# Altium integrated library Linear Technology Operational Amplifiers (LT1000).IntLib: 2280 symbols (part 58 of 79)
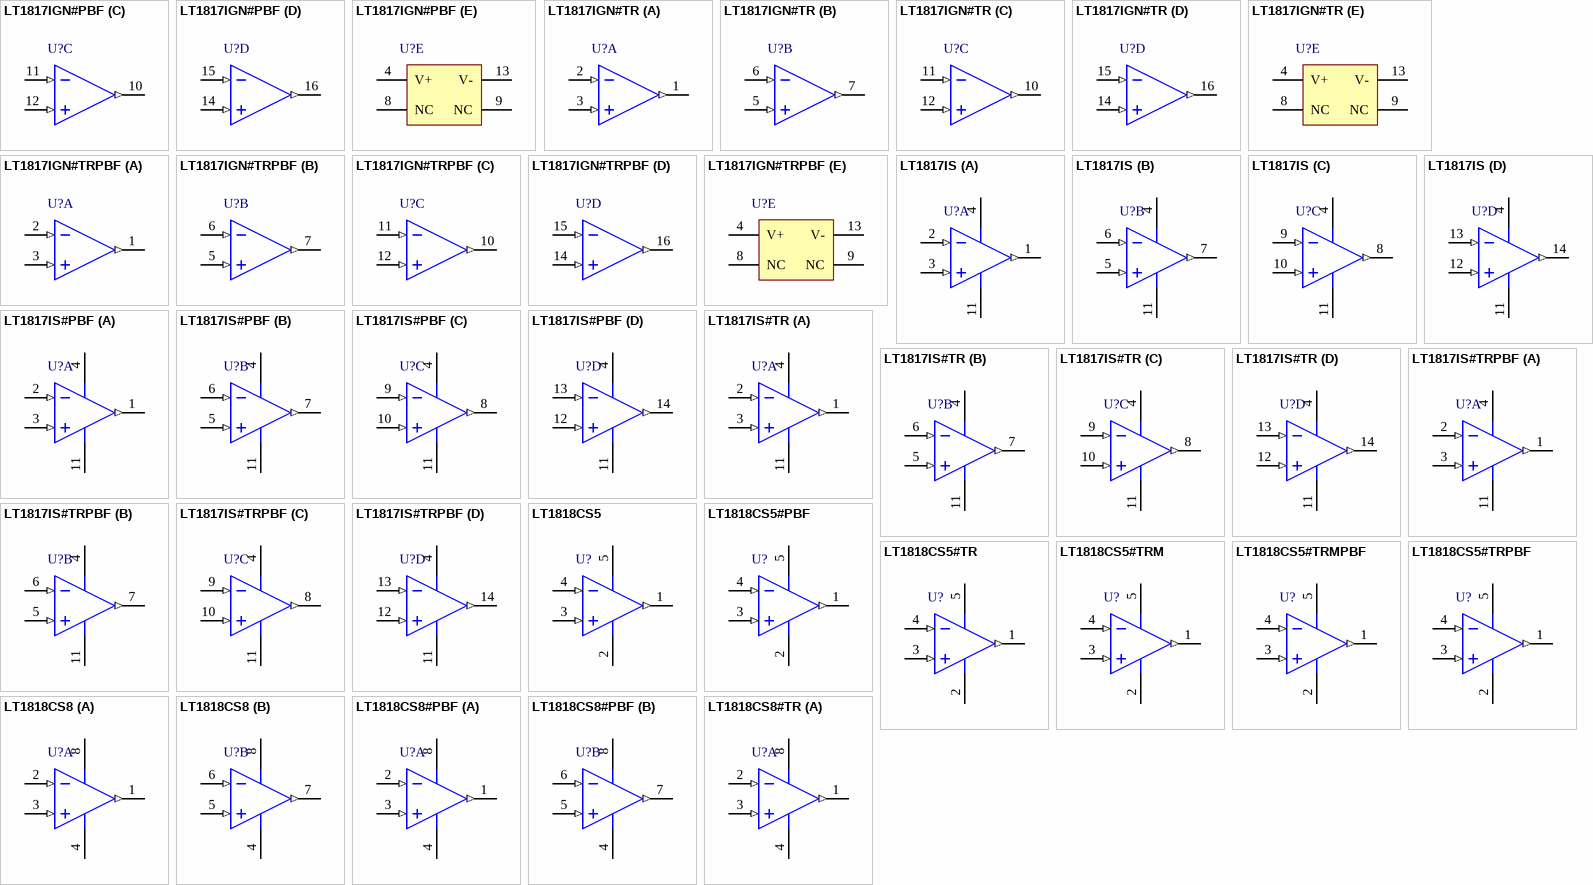
[diagram p162: symbols LT1817IGN#PBF to LT1818CS8#TR]

## LT1818CS8#PBF
designator U?
Single Channel, High SR Volage Feedback Operational Amplifiers, 400 MHz Typical GBW, 2500 V/us Typical SR, 3.5 to 12.6 V, 8-Pin SOIC (S8-8), Commercial, Pb-Free; Linear Technology Part Number: LT1818; Manufacturer: Linear Technology; PartNumber: LT1818CS8#PBF; Channels (#): 1; GBW (MHz) Typical: 400; Is (mA) Typical: 9; SR (V/us) Typical: 2500; Vos (mV) Guaranteed: 1.5; Vos (mV) Typical: 0.2; Vs Max (V): 12.6; Vs Min (V): 3.5; DatasheetVersion: Rev. B; PackageVersion: Rev G; PackageReference: LT-S8-8; PackageDescription: 8-Pin Plastic Small Outline, Body 4.9 x 3.9 mm, Pitch 1.27 mm; Supplier 1: Digi-Key; Supplier Part Number 1: LT1818CS8#PBF-ND; Supplier 2: Farnell; Supplier Part Number 2: 1330722; Supplier 3: Newark; Supplier Part Number 3: 57M7031; RoHS: Pb-Free; Type: VFB; Mounting Technology: Surface Mount; ComponentLink1Description: Manufacturer URL; ComponentLink1URL: http://www.linear.com/; ComponentLink2Description: Datasheet; ComponentLink2URL: http://cds.linear.com/docs/en/datasheet/18189fb.pdf; ComponentLink3Description: Package Specification; ComponentLink3URL: http://cds.linear.com/docs/en/packaging/05081610_G_SO8.pdf
footprint LT-S8-8_N (SOIC, 8-Leads, Body 4.9x3.9mm, Pitch 1.27mm, IPC Medium Density)
footprint LT-S8-8_L (SOIC, 8-Leads, Body 4.9x3.9mm, Pitch 1.27mm, IPC High Density)
footprint LT-S8-8_M (SOIC, 8-Leads, Body 4.9x3.9mm, Pitch 1.27mm, IPC Low Density)
pins on every part: 4 V- (power), 8 V+ (power)
part A pins: 1 OUT A (out), 2 -IN A (in), 3 +IN A (in)
part B pins: 5 +IN B (in), 6 -IN B (in), 7 OUT B (out)

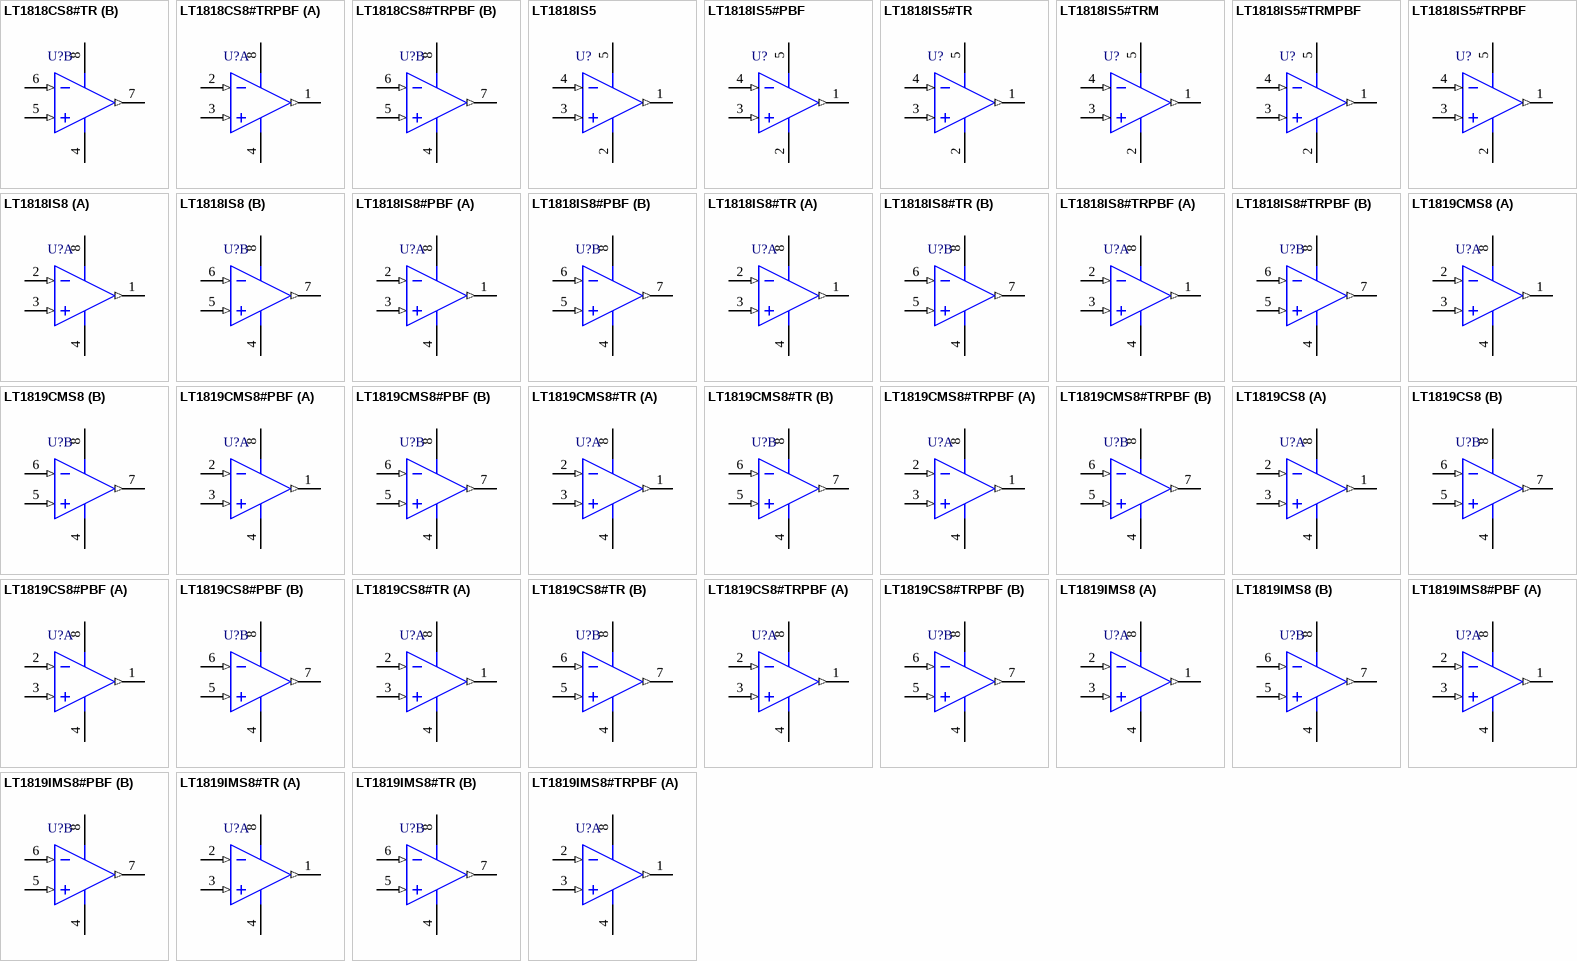
[diagram p90: symbols LT1818CS8#TR to LT1819IMS8#TRPBF]

## LT1818CS8#TR
designator U?
Single Channel, High SR Volage Feedback Operational Amplifiers, 400 MHz Typical GBW, 2500 V/us Typical SR, 3.5 to 12.6 V, 8-Pin SOIC (S8-8), Commercial, Reel; Linear Technology Part Number: LT1818; Manufacturer: Linear Technology; PartNumber: LT1818CS8#TR; Channels (#): 1; GBW (MHz) Typical: 400; Is (mA) Typical: 9; SR (V/us) Typical: 2500; Vos (mV) Guaranteed: 1.5; Vos (mV) Typical: 0.2; Vs Max (V): 12.6; Vs Min (V): 3.5; DatasheetVersion: Rev. B; PackageVersion: Rev G; PackageReference: LT-S8-8; PackageDescription: 8-Pin Plastic Small Outline, Body 4.9 x 3.9 mm, Pitch 1.27 mm; Supplier 1: Digi-Key; Supplier Part Number 1: LT1818CS8#TR-ND; Packing: Reel; Type: VFB; Mounting Technology: Surface Mount; ComponentLink1Description: Manufacturer URL; ComponentLink1URL: http://www.linear.com/; ComponentLink2Description: Datasheet; ComponentLink2URL: http://cds.linear.com/docs/en/datasheet/18189fb.pdf; ComponentLink3Description: Package Specification; ComponentLink3URL: http://cds.linear.com/docs/en/packaging/05081610_G_SO8.pdf
footprint LT-S8-8_N (SOIC, 8-Leads, Body 4.9x3.9mm, Pitch 1.27mm, IPC Medium Density)
footprint LT-S8-8_L (SOIC, 8-Leads, Body 4.9x3.9mm, Pitch 1.27mm, IPC High Density)
footprint LT-S8-8_M (SOIC, 8-Leads, Body 4.9x3.9mm, Pitch 1.27mm, IPC Low Density)
pins on every part: 4 V- (power), 8 V+ (power)
part A pins: 1 OUT A (out), 2 -IN A (in), 3 +IN A (in)
part B pins: 5 +IN B (in), 6 -IN B (in), 7 OUT B (out)

## LT1818CS8#TRPBF
designator U?
Single Channel, High SR Volage Feedback Operational Amplifiers, 400 MHz Typical GBW, 2500 V/us Typical SR, 3.5 to 12.6 V, 8-Pin SOIC (S8-8), Commercial, Pb-Free, Reel; Linear Technology Part Number: LT1818; Manufacturer: Linear Technology; PartNumber: LT1818CS8#TRPBF; Channels (#): 1; GBW (MHz) Typical: 400; Is (mA) Typical: 9; SR (V/us) Typical: 2500; Vos (mV) Guaranteed: 1.5; Vos (mV) Typical: 0.2; Vs Max (V): 12.6; Vs Min (V): 3.5; DatasheetVersion: Rev. B; PackageVersion: Rev G; PackageReference: LT-S8-8; PackageDescription: 8-Pin Plastic Small Outline, Body 4.9 x 3.9 mm, Pitch 1.27 mm; Supplier 1: Digi-Key; Supplier Part Number 1: LT1818CS8#TRPBF-ND; Packing: Reel; RoHS: Pb-Free; Type: VFB; Mounting Technology: Surface Mount; ComponentLink1Description: Manufacturer URL; ComponentLink1URL: http://www.linear.com/; ComponentLink2Description: Datasheet; ComponentLink2URL: http://cds.linear.com/docs/en/datasheet/18189fb.pdf; ComponentLink3Description: Package Specification; ComponentLink3URL: http://cds.linear.com/docs/en/packaging/05081610_G_SO8.pdf
footprint LT-S8-8_N (SOIC, 8-Leads, Body 4.9x3.9mm, Pitch 1.27mm, IPC Medium Density)
footprint LT-S8-8_L (SOIC, 8-Leads, Body 4.9x3.9mm, Pitch 1.27mm, IPC High Density)
footprint LT-S8-8_M (SOIC, 8-Leads, Body 4.9x3.9mm, Pitch 1.27mm, IPC Low Density)
pins on every part: 4 V- (power), 8 V+ (power)
part A pins: 1 OUT A (out), 2 -IN A (in), 3 +IN A (in)
part B pins: 5 +IN B (in), 6 -IN B (in), 7 OUT B (out)

## LT1818IS5
designator U?
Single Channel, High SR Volage Feedback Operational Amplifiers, 400 MHz Typical GBW, 2500 V/us Typical SR, 3.5 to 12.6 V, 5-Pin SOT23 (S5-5), Industrial; Linear Technology Part Number: LT1818; Manufacturer: Linear Technology; PartNumber: LT1818IS5; Channels (#): 1; GBW (MHz) Typical: 400; Is (mA) Typical: 9; SR (V/us) Typical: 2500; Vos (mV) Guaranteed: 1.5; Vos (mV) Typical: 0.2; Vs Max (V): 12.6; Vs Min (V): 3.5; DatasheetVersion: Rev. B; PackageReference: LT-S5-5-TSOT-23; PackageDescription: 5-Lead Plastic TSOT-23, Body 1.63 x 2.90 mm, Pitch 0.95 mm; Type: VFB; Mounting Technology: Surface Mount; Code_JEDEC: MO-193; ComponentLink1Description: Manufacturer URL; ComponentLink1URL: http://www.linear.com/; ComponentLink2Description: Datasheet; ComponentLink2URL: http://cds.linear.com/docs/en/datasheet/18189fb.pdf; ComponentLink3Description: Package Specification; ComponentLink3URL: http://cds.linear.com/docs/en/packaging/SOT_5_05-08-1635.pdf
footprint LT-S5-5-TSOT-23_N (SOT23, 5-Leads, Body 2.90x1.63mm, Pitch 0.95mm, IPC Medium Density)
footprint LT-S5-5-TSOT-23_L (SOT23, 5-Leads, Body 2.90x1.63mm, Pitch 0.95mm, IPC High Density)
footprint LT-S5-5-TSOT-23_M (SOT23, 5-Leads, Body 2.90x1.63mm, Pitch 0.95mm, IPC Low Density)
pins: 1 OUT 1 (out), 2 V- (power), 3 +IN (in), 4 -IN (in), 5 V+ (power)

## LT1818IS5#PBF
designator U?
Single Channel, High SR Volage Feedback Operational Amplifiers, 400 MHz Typical GBW, 2500 V/us Typical SR, 3.5 to 12.6 V, 5-Pin SOT23 (S5-5), Industrial, Pb-Free; Linear Technology Part Number: LT1818; Manufacturer: Linear Technology; PartNumber: LT1818IS5#PBF; Channels (#): 1; GBW (MHz) Typical: 400; Is (mA) Typical: 9; SR (V/us) Typical: 2500; Vos (mV) Guaranteed: 1.5; Vos (mV) Typical: 0.2; Vs Max (V): 12.6; Vs Min (V): 3.5; DatasheetVersion: Rev. B; PackageReference: LT-S5-5-TSOT-23; PackageDescription: 5-Lead Plastic TSOT-23, Body 1.63 x 2.90 mm, Pitch 0.95 mm; Supplier 1: Newark; Supplier Part Number 1: 78T3755; RoHS: Pb-Free; Type: VFB; Mounting Technology: Surface Mount; Code_JEDEC: MO-193; ComponentLink1Description: Manufacturer URL; ComponentLink1URL: http://www.linear.com/; ComponentLink2Description: Datasheet; ComponentLink2URL: http://cds.linear.com/docs/en/datasheet/18189fb.pdf; ComponentLink3Description: Package Specification; ComponentLink3URL: http://cds.linear.com/docs/en/packaging/SOT_5_05-08-1635.pdf
footprint LT-S5-5-TSOT-23_N (SOT23, 5-Leads, Body 2.90x1.63mm, Pitch 0.95mm, IPC Medium Density)
footprint LT-S5-5-TSOT-23_L (SOT23, 5-Leads, Body 2.90x1.63mm, Pitch 0.95mm, IPC High Density)
footprint LT-S5-5-TSOT-23_M (SOT23, 5-Leads, Body 2.90x1.63mm, Pitch 0.95mm, IPC Low Density)
pins: 1 OUT 1 (out), 2 V- (power), 3 +IN (in), 4 -IN (in), 5 V+ (power)

## LT1818IS5#TR
designator U?
Single Channel, High SR Volage Feedback Operational Amplifiers, 400 MHz Typical GBW, 2500 V/us Typical SR, 3.5 to 12.6 V, 5-Pin SOT23 (S5-5), Industrial, Reel; Linear Technology Part Number: LT1818; Manufacturer: Linear Technology; PartNumber: LT1818IS5#TR; Channels (#): 1; GBW (MHz) Typical: 400; Is (mA) Typical: 9; SR (V/us) Typical: 2500; Vos (mV) Guaranteed: 1.5; Vos (mV) Typical: 0.2; Vs Max (V): 12.6; Vs Min (V): 3.5; DatasheetVersion: Rev. B; PackageReference: LT-S5-5-TSOT-23; PackageDescription: 5-Lead Plastic TSOT-23, Body 1.63 x 2.90 mm, Pitch 0.95 mm; Supplier 1: Digi-Key; Supplier Part Number 1: LT1818IS5#TR-ND; Packing: Reel; Type: VFB; Mounting Technology: Surface Mount; Code_JEDEC: MO-193; ComponentLink1Description: Manufacturer URL; ComponentLink1URL: http://www.linear.com/; ComponentLink2Description: Datasheet; ComponentLink2URL: http://cds.linear.com/docs/en/datasheet/18189fb.pdf; ComponentLink3Description: Package Specification; ComponentLink3URL: http://cds.linear.com/docs/en/packaging/SOT_5_05-08-1635.pdf
footprint LT-S5-5-TSOT-23_N (SOT23, 5-Leads, Body 2.90x1.63mm, Pitch 0.95mm, IPC Medium Density)
footprint LT-S5-5-TSOT-23_L (SOT23, 5-Leads, Body 2.90x1.63mm, Pitch 0.95mm, IPC High Density)
footprint LT-S5-5-TSOT-23_M (SOT23, 5-Leads, Body 2.90x1.63mm, Pitch 0.95mm, IPC Low Density)
pins: 1 OUT 1 (out), 2 V- (power), 3 +IN (in), 4 -IN (in), 5 V+ (power)

## LT1818IS5#TRM
designator U?
Single Channel, High SR Volage Feedback Operational Amplifiers, 400 MHz Typical GBW, 2500 V/us Typical SR, 3.5 to 12.6 V, 5-Pin SOT23 (S5-5), Industrial, Mini Reel; Linear Technology Part Number: LT1818; Manufacturer: Linear Technology; PartNumber: LT1818IS5#TRM; Channels (#): 1; GBW (MHz) Typical: 400; Is (mA) Typical: 9; SR (V/us) Typical: 2500; Vos (mV) Guaranteed: 1.5; Vos (mV) Typical: 0.2; Vs Max (V): 12.6; Vs Min (V): 3.5; DatasheetVersion: Rev. B; PackageReference: LT-S5-5-TSOT-23; PackageDescription: 5-Lead Plastic TSOT-23, Body 1.63 x 2.90 mm, Pitch 0.95 mm; Supplier 1: Digi-Key; Supplier Part Number 1: LT1818IS5#TRM-ND; Packing: Mini Reel; Type: VFB; Mounting Technology: Surface Mount; Code_JEDEC: MO-193; ComponentLink1Description: Manufacturer URL; ComponentLink1URL: http://www.linear.com/; ComponentLink2Description: Datasheet; ComponentLink2URL: http://cds.linear.com/docs/en/datasheet/18189fb.pdf; ComponentLink3Description: Package Specification; ComponentLink3URL: http://cds.linear.com/docs/en/packaging/SOT_5_05-08-1635.pdf
footprint LT-S5-5-TSOT-23_N (SOT23, 5-Leads, Body 2.90x1.63mm, Pitch 0.95mm, IPC Medium Density)
footprint LT-S5-5-TSOT-23_L (SOT23, 5-Leads, Body 2.90x1.63mm, Pitch 0.95mm, IPC High Density)
footprint LT-S5-5-TSOT-23_M (SOT23, 5-Leads, Body 2.90x1.63mm, Pitch 0.95mm, IPC Low Density)
pins: 1 OUT 1 (out), 2 V- (power), 3 +IN (in), 4 -IN (in), 5 V+ (power)

## LT1818IS5#TRMPBF
designator U?
Single Channel, High SR Volage Feedback Operational Amplifiers, 400 MHz Typical GBW, 2500 V/us Typical SR, 3.5 to 12.6 V, 5-Pin SOT23 (S5-5), Industrial, Pb-Free, Mini Reel; Linear Technology Part Number: LT1818; Manufacturer: Linear Technology; PartNumber: LT1818IS5#TRMPBF; Channels (#): 1; GBW (MHz) Typical: 400; Is (mA) Typical: 9; SR (V/us) Typical: 2500; Vos (mV) Guaranteed: 1.5; Vos (mV) Typical: 0.2; Vs Max (V): 12.6; Vs Min (V): 3.5; DatasheetVersion: Rev. B; PackageReference: LT-S5-5-TSOT-23; PackageDescription: 5-Lead Plastic TSOT-23, Body 1.63 x 2.90 mm, Pitch 0.95 mm; Supplier 1: Digi-Key; Supplier Part Number 1: LT1818IS5#TRMPBF-ND; Supplier 2: Newark; Supplier Part Number 2: 57M7036; Packing: Mini Reel; RoHS: Pb-Free; Type: VFB; Mounting Technology: Surface Mount; Code_JEDEC: MO-193; ComponentLink1Description: Manufacturer URL; ComponentLink1URL: http://www.linear.com/; ComponentLink2Description: Datasheet; ComponentLink2URL: http://cds.linear.com/docs/en/datasheet/18189fb.pdf; ComponentLink3Description: Package Specification; ComponentLink3URL: http://cds.linear.com/docs/en/packaging/SOT_5_05-08-1635.pdf
footprint LT-S5-5-TSOT-23_N (SOT23, 5-Leads, Body 2.90x1.63mm, Pitch 0.95mm, IPC Medium Density)
footprint LT-S5-5-TSOT-23_L (SOT23, 5-Leads, Body 2.90x1.63mm, Pitch 0.95mm, IPC High Density)
footprint LT-S5-5-TSOT-23_M (SOT23, 5-Leads, Body 2.90x1.63mm, Pitch 0.95mm, IPC Low Density)
pins: 1 OUT 1 (out), 2 V- (power), 3 +IN (in), 4 -IN (in), 5 V+ (power)

## LT1818IS5#TRPBF
designator U?
Single Channel, High SR Volage Feedback Operational Amplifiers, 400 MHz Typical GBW, 2500 V/us Typical SR, 3.5 to 12.6 V, 5-Pin SOT23 (S5-5), Industrial, Pb-Free, Reel; Linear Technology Part Number: LT1818; Manufacturer: Linear Technology; PartNumber: LT1818IS5#TRPBF; Channels (#): 1; GBW (MHz) Typical: 400; Is (mA) Typical: 9; SR (V/us) Typical: 2500; Vos (mV) Guaranteed: 1.5; Vos (mV) Typical: 0.2; Vs Max (V): 12.6; Vs Min (V): 3.5; DatasheetVersion: Rev. B; PackageReference: LT-S5-5-TSOT-23; PackageDescription: 5-Lead Plastic TSOT-23, Body 1.63 x 2.90 mm, Pitch 0.95 mm; Supplier 1: Digi-Key; Supplier Part Number 1: LT1818IS5#TRPBF-ND; Packing: Reel; RoHS: Pb-Free; Type: VFB; Mounting Technology: Surface Mount; Code_JEDEC: MO-193; ComponentLink1Description: Manufacturer URL; ComponentLink1URL: http://www.linear.com/; ComponentLink2Description: Datasheet; ComponentLink2URL: http://cds.linear.com/docs/en/datasheet/18189fb.pdf; ComponentLink3Description: Package Specification; ComponentLink3URL: http://cds.linear.com/docs/en/packaging/SOT_5_05-08-1635.pdf
footprint LT-S5-5-TSOT-23_N (SOT23, 5-Leads, Body 2.90x1.63mm, Pitch 0.95mm, IPC Medium Density)
footprint LT-S5-5-TSOT-23_L (SOT23, 5-Leads, Body 2.90x1.63mm, Pitch 0.95mm, IPC High Density)
footprint LT-S5-5-TSOT-23_M (SOT23, 5-Leads, Body 2.90x1.63mm, Pitch 0.95mm, IPC Low Density)
pins: 1 OUT 1 (out), 2 V- (power), 3 +IN (in), 4 -IN (in), 5 V+ (power)

## LT1818IS8
designator U?
Single Channel, High Slew Rate VFB Operational Amplifier, 400 MHz Typical GBW, 2500 V/us Typical SR, 3.5 to 12.6 V, 8-Pin SOIC (S8-8), Industrial; Linear Technology Part Number: LT1818; Manufacturer: Linear Technology; PartNumber: LT1818IS8; Channels (#): 1; GBW (MHz) Typical: 400; Is (mA) Typical: 9; SR (V/us) Typical: 2500; Vos (mV) Guaranteed: 1.5; Vos (mV) Typical: 0.2; Vs Max (V): 12.6; Vs Min (V): 3.5; DatasheetVersion: Rev. B; PackageVersion: Rev G; PackageReference: LT-S8-8; PackageDescription: 8-Pin Plastic Small Outline, Body 4.9 x 3.9 mm, Pitch 1.27 mm; Supplier 1: Digi-Key; Supplier Part Number 1: LT1818IS8-ND; Type: VFB; Mounting Technology: Surface Mount; ComponentLink1Description: Manufacturer URL; ComponentLink1URL: http://www.linear.com/; ComponentLink2Description: Datasheet; ComponentLink2URL: http://cds.linear.com/docs/en/datasheet/18189fb.pdf; ComponentLink3Description: Package Specification; ComponentLink3URL: http://cds.linear.com/docs/en/packaging/05081610_G_SO8.pdf
footprint LT-S8-8_N (SOIC, 8-Leads, Body 4.9x3.9mm, Pitch 1.27mm, IPC Medium Density)
footprint LT-S8-8_L (SOIC, 8-Leads, Body 4.9x3.9mm, Pitch 1.27mm, IPC High Density)
footprint LT-S8-8_M (SOIC, 8-Leads, Body 4.9x3.9mm, Pitch 1.27mm, IPC Low Density)
pins on every part: 4 V- (power), 8 V+ (power)
part A pins: 1 OUT A (out), 2 -IN A (in), 3 +IN A (in)
part B pins: 5 +IN B (in), 6 -IN B (in), 7 OUT B (out)

## LT1818IS8#PBF
designator U?
Single Channel, High Slew Rate VFB Operational Amplifier, 400 MHz Typical GBW, 2500 V/us Typical SR, 3.5 to 12.6 V, 8-Pin SOIC (S8-8), Industrial, Pb-Free; Linear Technology Part Number: LT1818; Manufacturer: Linear Technology; PartNumber: LT1818IS8#PBF; Channels (#): 1; GBW (MHz) Typical: 400; Is (mA) Typical: 9; SR (V/us) Typical: 2500; Vos (mV) Guaranteed: 1.5; Vos (mV) Typical: 0.2; Vs Max (V): 12.6; Vs Min (V): 3.5; DatasheetVersion: Rev. B; PackageVersion: Rev G; PackageReference: LT-S8-8; PackageDescription: 8-Pin Plastic Small Outline, Body 4.9 x 3.9 mm, Pitch 1.27 mm; Supplier 1: Digi-Key; Supplier Part Number 1: LT1818IS8#PBF-ND; Supplier 2: Newark; Supplier Part Number 2: 57M7039; RoHS: Pb-Free; Type: VFB; Mounting Technology: Surface Mount; ComponentLink1Description: Manufacturer URL; ComponentLink1URL: http://www.linear.com/; ComponentLink2Description: Datasheet; ComponentLink2URL: http://cds.linear.com/docs/en/datasheet/18189fb.pdf; ComponentLink3Description: Package Specification; ComponentLink3URL: http://cds.linear.com/docs/en/packaging/05081610_G_SO8.pdf
footprint LT-S8-8_N (SOIC, 8-Leads, Body 4.9x3.9mm, Pitch 1.27mm, IPC Medium Density)
footprint LT-S8-8_L (SOIC, 8-Leads, Body 4.9x3.9mm, Pitch 1.27mm, IPC High Density)
footprint LT-S8-8_M (SOIC, 8-Leads, Body 4.9x3.9mm, Pitch 1.27mm, IPC Low Density)
pins on every part: 4 V- (power), 8 V+ (power)
part A pins: 1 OUT A (out), 2 -IN A (in), 3 +IN A (in)
part B pins: 5 +IN B (in), 6 -IN B (in), 7 OUT B (out)

## LT1818IS8#TR
designator U?
Single Channel, High Slew Rate VFB Operational Amplifier, 400 MHz Typical GBW, 2500 V/us Typical SR, 3.5 to 12.6 V, 8-Pin SOIC (S8-8), Industrial, Reel; Linear Technology Part Number: LT1818; Manufacturer: Linear Technology; PartNumber: LT1818IS8#TR; Channels (#): 1; GBW (MHz) Typical: 400; Is (mA) Typical: 9; SR (V/us) Typical: 2500; Vos (mV) Guaranteed: 1.5; Vos (mV) Typical: 0.2; Vs Max (V): 12.6; Vs Min (V): 3.5; DatasheetVersion: Rev. B; PackageVersion: Rev G; PackageReference: LT-S8-8; PackageDescription: 8-Pin Plastic Small Outline, Body 4.9 x 3.9 mm, Pitch 1.27 mm; Supplier 1: Digi-Key; Supplier Part Number 1: LT1818IS8#TR-ND; Packing: Reel; Type: VFB; Mounting Technology: Surface Mount; ComponentLink1Description: Manufacturer URL; ComponentLink1URL: http://www.linear.com/; ComponentLink2Description: Datasheet; ComponentLink2URL: http://cds.linear.com/docs/en/datasheet/18189fb.pdf; ComponentLink3Description: Package Specification; ComponentLink3URL: http://cds.linear.com/docs/en/packaging/05081610_G_SO8.pdf
footprint LT-S8-8_N (SOIC, 8-Leads, Body 4.9x3.9mm, Pitch 1.27mm, IPC Medium Density)
footprint LT-S8-8_L (SOIC, 8-Leads, Body 4.9x3.9mm, Pitch 1.27mm, IPC High Density)
footprint LT-S8-8_M (SOIC, 8-Leads, Body 4.9x3.9mm, Pitch 1.27mm, IPC Low Density)
pins on every part: 4 V- (power), 8 V+ (power)
part A pins: 1 OUT A (out), 2 -IN A (in), 3 +IN A (in)
part B pins: 5 +IN B (in), 6 -IN B (in), 7 OUT B (out)

## LT1818IS8#TRPBF
designator U?
Single Channel, High Slew Rate VFB Operational Amplifier, 400 MHz Typical GBW, 2500 V/us Typical SR, 3.5 to 12.6 V, 8-Pin SOIC (S8-8), Industrial, Pb-Free, Reel; Linear Technology Part Number: LT1818; Manufacturer: Linear Technology; PartNumber: LT1818IS8#TRPBF; Channels (#): 1; GBW (MHz) Typical: 400; Is (mA) Typical: 9; SR (V/us) Typical: 2500; Vos (mV) Guaranteed: 1.5; Vos (mV) Typical: 0.2; Vs Max (V): 12.6; Vs Min (V): 3.5; DatasheetVersion: Rev. B; PackageVersion: Rev G; PackageReference: LT-S8-8; PackageDescription: 8-Pin Plastic Small Outline, Body 4.9 x 3.9 mm, Pitch 1.27 mm; Supplier 1: Digi-Key; Supplier Part Number 1: LT1818IS8#TRPBF-ND; Packing: Reel; RoHS: Pb-Free; Type: VFB; Mounting Technology: Surface Mount; ComponentLink1Description: Manufacturer URL; ComponentLink1URL: http://www.linear.com/; ComponentLink2Description: Datasheet; ComponentLink2URL: http://cds.linear.com/docs/en/datasheet/18189fb.pdf; ComponentLink3Description: Package Specification; ComponentLink3URL: http://cds.linear.com/docs/en/packaging/05081610_G_SO8.pdf
footprint LT-S8-8_N (SOIC, 8-Leads, Body 4.9x3.9mm, Pitch 1.27mm, IPC Medium Density)
footprint LT-S8-8_L (SOIC, 8-Leads, Body 4.9x3.9mm, Pitch 1.27mm, IPC High Density)
footprint LT-S8-8_M (SOIC, 8-Leads, Body 4.9x3.9mm, Pitch 1.27mm, IPC Low Density)
pins on every part: 4 V- (power), 8 V+ (power)
part A pins: 1 OUT A (out), 2 -IN A (in), 3 +IN A (in)
part B pins: 5 +IN B (in), 6 -IN B (in), 7 OUT B (out)

## LT1819CMS8
designator U?
Dual Channel, High SR Voltage Feedback Operational Amplifier, 400 MHz Typical GBW, 2500 V/us Typical SR, 3.5 to 12.6 V, 8-Pin SOP (MS8-8), Commercial; Linear Technology Part Number: LT1819; Manufacturer: Linear Technology; PartNumber: LT1819CMS8; Channels (#): 2; GBW (MHz) Typical: 400; Is (mA) Typical: 9; SR (V/us) Typical: 2500; Vos (mV) Guaranteed: 1.5; Vos (mV) Typical: 0.2; Vs Max (V): 12.6; Vs Min (V): 3.5; DatasheetVersion: Rev. B; PackageVersion: Rev G; PackageReference: LT-MS8-8; PackageDescription: 8-Lead Plastic Small Outline, Body 3.9 x 4.9 mm, Pitch 1.27 mm; Supplier 1: Digi-Key; Supplier Part Number 1: LT1819CMS8-ND; Type: VFB; Mounting Technology: Surface Mount; ComponentLink1Description: Manufacturer URL; ComponentLink1URL: http://www.linear.com/; ComponentLink2Description: Datasheet; ComponentLink2URL: http://cds.linear.com/docs/en/datasheet/18189fb.pdf; ComponentLink3Description: Package Specification; ComponentLink3URL: http://cds.linear.com/docs/en/packaging/05081610_G_SO8.pdf
footprint LT-MS8-8_N (SOP, 8-Leads, Body 3x3mm, Pitch 0.65mm, IPC Medium Density)
footprint LT-MS8-8_L (SOP, 8-Leads, Body 3x3mm, Pitch 0.65mm, IPC High Density)
footprint LT-MS8-8_M (SOP, 8-Leads, Body 3x3mm, Pitch 0.65mm, IPC Low Density)
pins on every part: 4 V- (power), 8 V+ (power)
part A pins: 1 OUT A (out), 2 -IN A (in), 3 +IN A (in)
part B pins: 5 +IN B (in), 6 -IN B (in), 7 OUT B (out)

## LT1819CMS8#PBF
designator U?
Dual Channel, High SR Voltage Feedback Operational Amplifier, 400 MHz Typical GBW, 2500 V/us Typical SR, 3.5 to 12.6 V, 8-Pin SOP (MS8-8), Commercial, Pb-Free; Linear Technology Part Number: LT1819; Manufacturer: Linear Technology; PartNumber: LT1819CMS8#PBF; Channels (#): 2; GBW (MHz) Typical: 400; Is (mA) Typical: 9; SR (V/us) Typical: 2500; Vos (mV) Guaranteed: 1.5; Vos (mV) Typical: 0.2; Vs Max (V): 12.6; Vs Min (V): 3.5; DatasheetVersion: Rev. B; PackageVersion: Rev G; PackageReference: LT-MS8-8; PackageDescription: 8-Lead Plastic Small Outline, Body 3.9 x 4.9 mm, Pitch 1.27 mm; Supplier 1: Digi-Key; Supplier Part Number 1: LT1819CMS8#PBF-ND; Supplier 2: Newark; Supplier Part Number 2: 57M7043; RoHS: Pb-Free; Type: VFB; Mounting Technology: Surface Mount; ComponentLink1Description: Manufacturer URL; ComponentLink1URL: http://www.linear.com/; ComponentLink2Description: Datasheet; ComponentLink2URL: http://cds.linear.com/docs/en/datasheet/18189fb.pdf; ComponentLink3Description: Package Specification; ComponentLink3URL: http://cds.linear.com/docs/en/packaging/05081610_G_SO8.pdf
footprint LT-MS8-8_N (SOP, 8-Leads, Body 3x3mm, Pitch 0.65mm, IPC Medium Density)
footprint LT-MS8-8_L (SOP, 8-Leads, Body 3x3mm, Pitch 0.65mm, IPC High Density)
footprint LT-MS8-8_M (SOP, 8-Leads, Body 3x3mm, Pitch 0.65mm, IPC Low Density)
pins on every part: 4 V- (power), 8 V+ (power)
part A pins: 1 OUT A (out), 2 -IN A (in), 3 +IN A (in)
part B pins: 5 +IN B (in), 6 -IN B (in), 7 OUT B (out)

## LT1819CMS8#TR
designator U?
Dual Channel, High SR Voltage Feedback Operational Amplifier, 400 MHz Typical GBW, 2500 V/us Typical SR, 3.5 to 12.6 V, 8-Pin SOP (MS8-8), Commercial, Reel; Linear Technology Part Number: LT1819; Manufacturer: Linear Technology; PartNumber: LT1819CMS8#TR; Channels (#): 2; GBW (MHz) Typical: 400; Is (mA) Typical: 9; SR (V/us) Typical: 2500; Vos (mV) Guaranteed: 1.5; Vos (mV) Typical: 0.2; Vs Max (V): 12.6; Vs Min (V): 3.5; DatasheetVersion: Rev. B; PackageVersion: Rev G; PackageReference: LT-MS8-8; PackageDescription: 8-Lead Plastic Small Outline, Body 3.9 x 4.9 mm, Pitch 1.27 mm; Supplier 1: Digi-Key; Supplier Part Number 1: LT1819CMS8#TR-ND; Packing: Reel; Type: VFB; Mounting Technology: Surface Mount; ComponentLink1Description: Manufacturer URL; ComponentLink1URL: http://www.linear.com/; ComponentLink2Description: Datasheet; ComponentLink2URL: http://cds.linear.com/docs/en/datasheet/18189fb.pdf; ComponentLink3Description: Package Specification; ComponentLink3URL: http://cds.linear.com/docs/en/packaging/05081610_G_SO8.pdf
footprint LT-MS8-8_N (SOP, 8-Leads, Body 3x3mm, Pitch 0.65mm, IPC Medium Density)
footprint LT-MS8-8_L (SOP, 8-Leads, Body 3x3mm, Pitch 0.65mm, IPC High Density)
footprint LT-MS8-8_M (SOP, 8-Leads, Body 3x3mm, Pitch 0.65mm, IPC Low Density)
pins on every part: 4 V- (power), 8 V+ (power)
part A pins: 1 OUT A (out), 2 -IN A (in), 3 +IN A (in)
part B pins: 5 +IN B (in), 6 -IN B (in), 7 OUT B (out)

## LT1819CMS8#TRPBF
designator U?
Dual Channel, High SR Voltage Feedback Operational Amplifier, 400 MHz Typical GBW, 2500 V/us Typical SR, 3.5 to 12.6 V, 8-Pin SOP (MS8-8), Commercial, Pb-Free, Reel; Linear Technology Part Number: LT1819; Manufacturer: Linear Technology; PartNumber: LT1819CMS8#TRPBF; Channels (#): 2; GBW (MHz) Typical: 400; Is (mA) Typical: 9; SR (V/us) Typical: 2500; Vos (mV) Guaranteed: 1.5; Vos (mV) Typical: 0.2; Vs Max (V): 12.6; Vs Min (V): 3.5; DatasheetVersion: Rev. B; PackageVersion: Rev G; PackageReference: LT-MS8-8; PackageDescription: 8-Lead Plastic Small Outline, Body 3.9 x 4.9 mm, Pitch 1.27 mm; Supplier 1: Digi-Key; Supplier Part Number 1: LT1819CMS8#TRPBF-ND; Packing: Reel; RoHS: Pb-Free; Type: VFB; Mounting Technology: Surface Mount; ComponentLink1Description: Manufacturer URL; ComponentLink1URL: http://www.linear.com/; ComponentLink2Description: Datasheet; ComponentLink2URL: http://cds.linear.com/docs/en/datasheet/18189fb.pdf; ComponentLink3Description: Package Specification; ComponentLink3URL: http://cds.linear.com/docs/en/packaging/05081610_G_SO8.pdf
footprint LT-MS8-8_N (SOP, 8-Leads, Body 3x3mm, Pitch 0.65mm, IPC Medium Density)
footprint LT-MS8-8_L (SOP, 8-Leads, Body 3x3mm, Pitch 0.65mm, IPC High Density)
footprint LT-MS8-8_M (SOP, 8-Leads, Body 3x3mm, Pitch 0.65mm, IPC Low Density)
pins on every part: 4 V- (power), 8 V+ (power)
part A pins: 1 OUT A (out), 2 -IN A (in), 3 +IN A (in)
part B pins: 5 +IN B (in), 6 -IN B (in), 7 OUT B (out)

## LT1819CS8
designator U?
Dual Channel, High SR Voltage Feedback Operational Amplifier, 400 MHz Typical GBW, 2500 V/us Typical SR, 3.5 to 12.6 V, 8-Pin SOIC (S8-8), Commercial; Linear Technology Part Number: LT1819; Manufacturer: Linear Technology; PartNumber: LT1819CS8; Channels (#): 2; GBW (MHz) Typical: 400; Is (mA) Typical: 9; SR (V/us) Typical: 2500; Vos (mV) Guaranteed: 1.5; Vos (mV) Typical: 0.2; Vs Max (V): 12.6; Vs Min (V): 3.5; DatasheetVersion: Rev. B; PackageVersion: Rev G; PackageReference: LT-S8-8; PackageDescription: 8-Pin Plastic Small Outline, Body 4.9 x 3.9 mm, Pitch 1.27 mm; Supplier 1: Digi-Key; Supplier Part Number 1: LT1819CS8-ND; Type: VFB; Mounting Technology: Surface Mount; ComponentLink1Description: Manufacturer URL; ComponentLink1URL: http://www.linear.com/; ComponentLink2Description: Datasheet; ComponentLink2URL: http://cds.linear.com/docs/en/datasheet/18189fb.pdf; ComponentLink3Description: Package Specification; ComponentLink3URL: http://cds.linear.com/docs/en/packaging/05081610_G_SO8.pdf
footprint LT-S8-8_N (SOIC, 8-Leads, Body 4.9x3.9mm, Pitch 1.27mm, IPC Medium Density)
footprint LT-S8-8_L (SOIC, 8-Leads, Body 4.9x3.9mm, Pitch 1.27mm, IPC High Density)
footprint LT-S8-8_M (SOIC, 8-Leads, Body 4.9x3.9mm, Pitch 1.27mm, IPC Low Density)
pins on every part: 4 V- (power), 8 V+ (power)
part A pins: 1 OUT A (out), 2 -IN A (in), 3 +IN A (in)
part B pins: 5 +IN B (in), 6 -IN B (in), 7 OUT B (out)

## LT1819CS8#PBF
designator U?
Dual Channel, High SR Voltage Feedback Operational Amplifier, 400 MHz Typical GBW, 2500 V/us Typical SR, 3.5 to 12.6 V, 8-Pin SOIC (S8-8), Commercial, Pb-Free; Linear Technology Part Number: LT1819; Manufacturer: Linear Technology; PartNumber: LT1819CS8#PBF; Channels (#): 2; GBW (MHz) Typical: 400; Is (mA) Typical: 9; SR (V/us) Typical: 2500; Vos (mV) Guaranteed: 1.5; Vos (mV) Typical: 0.2; Vs Max (V): 12.6; Vs Min (V): 3.5; DatasheetVersion: Rev. B; PackageVersion: Rev G; PackageReference: LT-S8-8; PackageDescription: 8-Pin Plastic Small Outline, Body 4.9 x 3.9 mm, Pitch 1.27 mm; Supplier 1: Digi-Key; Supplier Part Number 1: LT1819CS8#PBF-ND; Supplier 2: Farnell; Supplier Part Number 2: 1663515; Supplier 3: Newark; Supplier Part Number 3: 57M7047; RoHS: Pb-Free; Type: VFB; Mounting Technology: Surface Mount; ComponentLink1Description: Manufacturer URL; ComponentLink1URL: http://www.linear.com/; ComponentLink2Description: Datasheet; ComponentLink2URL: http://cds.linear.com/docs/en/datasheet/18189fb.pdf; ComponentLink3Description: Package Specification; ComponentLink3URL: http://cds.linear.com/docs/en/packaging/05081610_G_SO8.pdf
footprint LT-S8-8_N (SOIC, 8-Leads, Body 4.9x3.9mm, Pitch 1.27mm, IPC Medium Density)
footprint LT-S8-8_L (SOIC, 8-Leads, Body 4.9x3.9mm, Pitch 1.27mm, IPC High Density)
footprint LT-S8-8_M (SOIC, 8-Leads, Body 4.9x3.9mm, Pitch 1.27mm, IPC Low Density)
pins on every part: 4 V- (power), 8 V+ (power)
part A pins: 1 OUT A (out), 2 -IN A (in), 3 +IN A (in)
part B pins: 5 +IN B (in), 6 -IN B (in), 7 OUT B (out)

## LT1819CS8#TR
designator U?
Dual Channel, High SR Voltage Feedback Operational Amplifier, 400 MHz Typical GBW, 2500 V/us Typical SR, 3.5 to 12.6 V, 8-Pin SOIC (S8-8), Commercial, Reel; Linear Technology Part Number: LT1819; Manufacturer: Linear Technology; PartNumber: LT1819CS8#TR; Channels (#): 2; GBW (MHz) Typical: 400; Is (mA) Typical: 9; SR (V/us) Typical: 2500; Vos (mV) Guaranteed: 1.5; Vos (mV) Typical: 0.2; Vs Max (V): 12.6; Vs Min (V): 3.5; DatasheetVersion: Rev. B; PackageVersion: Rev G; PackageReference: LT-S8-8; PackageDescription: 8-Pin Plastic Small Outline, Body 4.9 x 3.9 mm, Pitch 1.27 mm; Supplier 1: Digi-Key; Supplier Part Number 1: LT1819CS8#TR-ND; Packing: Reel; Type: VFB; Mounting Technology: Surface Mount; ComponentLink1Description: Manufacturer URL; ComponentLink1URL: http://www.linear.com/; ComponentLink2Description: Datasheet; ComponentLink2URL: http://cds.linear.com/docs/en/datasheet/18189fb.pdf; ComponentLink3Description: Package Specification; ComponentLink3URL: http://cds.linear.com/docs/en/packaging/05081610_G_SO8.pdf
footprint LT-S8-8_N (SOIC, 8-Leads, Body 4.9x3.9mm, Pitch 1.27mm, IPC Medium Density)
footprint LT-S8-8_L (SOIC, 8-Leads, Body 4.9x3.9mm, Pitch 1.27mm, IPC High Density)
footprint LT-S8-8_M (SOIC, 8-Leads, Body 4.9x3.9mm, Pitch 1.27mm, IPC Low Density)
pins on every part: 4 V- (power), 8 V+ (power)
part A pins: 1 OUT A (out), 2 -IN A (in), 3 +IN A (in)
part B pins: 5 +IN B (in), 6 -IN B (in), 7 OUT B (out)

## LT1819CS8#TRPBF
designator U?
Dual Channel, High SR Voltage Feedback Operational Amplifier, 400 MHz Typical GBW, 2500 V/us Typical SR, 3.5 to 12.6 V, 8-Pin SOIC (S8-8), Commercial, Pb-Freel, Reel; Linear Technology Part Number: LT1819; Manufacturer: Linear Technology; PartNumber: LT1819CS8#TRPBF; Channels (#): 2; GBW (MHz) Typical: 400; Is (mA) Typical: 9; SR (V/us) Typical: 2500; Vos (mV) Guaranteed: 1.5; Vos (mV) Typical: 0.2; Vs Max (V): 12.6; Vs Min (V): 3.5; DatasheetVersion: Rev. B; PackageVersion: Rev G; PackageReference: LT-S8-8; PackageDescription: 8-Pin Plastic Small Outline, Body 4.9 x 3.9 mm, Pitch 1.27 mm; Supplier 1: Digi-Key; Supplier Part Number 1: LT1819CS8#TRPBF-ND; Packing: Reel; RoHS: Pb-Free; Type: VFB; Mounting Technology: Surface Mount; ComponentLink1Description: Manufacturer URL; ComponentLink1URL: http://www.linear.com/; ComponentLink2Description: Datasheet; ComponentLink2URL: http://cds.linear.com/docs/en/datasheet/18189fb.pdf; ComponentLink3Description: Package Specification; ComponentLink3URL: http://cds.linear.com/docs/en/packaging/05081610_G_SO8.pdf
footprint LT-S8-8_N (SOIC, 8-Leads, Body 4.9x3.9mm, Pitch 1.27mm, IPC Medium Density)
footprint LT-S8-8_L (SOIC, 8-Leads, Body 4.9x3.9mm, Pitch 1.27mm, IPC High Density)
footprint LT-S8-8_M (SOIC, 8-Leads, Body 4.9x3.9mm, Pitch 1.27mm, IPC Low Density)
pins on every part: 4 V- (power), 8 V+ (power)
part A pins: 1 OUT A (out), 2 -IN A (in), 3 +IN A (in)
part B pins: 5 +IN B (in), 6 -IN B (in), 7 OUT B (out)

## LT1819IMS8
designator U?
Dual Channel, 9 mA High Slew Rate Voltage Feedback Operational Amplifier, 400 MHz Typical GBW, 2500 V/us Typical SR, 3.5 to 12.6 V, 8-Pin SOP (MS8-8), Industrial; Linear Technology Part Number: LT1819; Manufacturer: Linear Technology; PartNumber: LT1819IMS8; Channels (#): 2; GBW (MHz) Typical: 400; Is (mA) Typical: 9; SR (V/us) Typical: 2500; Vos (mV) Guaranteed: 1.5; Vos (mV) Typical: 0.2; Vs Max (V): 12.6; Vs Min (V): 3.5; DatasheetVersion: Rev. B; PackageVersion: Rev G; PackageReference: LT-MS8-8; PackageDescription: 8-Lead Plastic Small Outline, Body 3.9 x 4.9 mm, Pitch 1.27 mm; Supplier 1: Digi-Key; Supplier Part Number 1: LT1819IMS8-ND; Type: VFB; Mounting Technology: Surface Mount; ComponentLink1Description: Manufacturer URL; ComponentLink1URL: http://www.linear.com/; ComponentLink2Description: Datasheet; ComponentLink2URL: http://cds.linear.com/docs/en/datasheet/18189fb.pdf; ComponentLink3Description: Package Specification; ComponentLink3URL: http://cds.linear.com/docs/en/packaging/05081610_G_SO8.pdf
footprint LT-MS8-8_N (SOP, 8-Leads, Body 3x3mm, Pitch 0.65mm, IPC Medium Density)
footprint LT-MS8-8_L (SOP, 8-Leads, Body 3x3mm, Pitch 0.65mm, IPC High Density)
footprint LT-MS8-8_M (SOP, 8-Leads, Body 3x3mm, Pitch 0.65mm, IPC Low Density)
pins on every part: 4 V- (power), 8 V+ (power)
part A pins: 1 OUT A (out), 2 -IN A (in), 3 +IN A (in)
part B pins: 5 +IN B (in), 6 -IN B (in), 7 OUT B (out)

## LT1819IMS8#PBF
designator U?
Dual Channel, 9 mA High Slew Rate Voltage Feedback Operational Amplifier, 400 MHz Typical GBW, 2500 V/us Typical SR, 3.5 to 12.6 V, 8-Pin SOP (MS8-8), Industrial, Pb-Free; Linear Technology Part Number: LT1819; Manufacturer: Linear Technology; PartNumber: LT1819IMS8#PBF; Channels (#): 2; GBW (MHz) Typical: 400; Is (mA) Typical: 9; SR (V/us) Typical: 2500; Vos (mV) Guaranteed: 1.5; Vos (mV) Typical: 0.2; Vs Max (V): 12.6; Vs Min (V): 3.5; DatasheetVersion: Rev. B; PackageVersion: Rev G; PackageReference: LT-MS8-8; PackageDescription: 8-Lead Plastic Small Outline, Body 3.9 x 4.9 mm, Pitch 1.27 mm; Supplier 1: Digi-Key; Supplier Part Number 1: LT1819IMS8#PBF-ND; Supplier 2: Newark; Supplier Part Number 2: 57M7051; RoHS: Pb-Free; Type: VFB; Mounting Technology: Surface Mount; ComponentLink1Description: Manufacturer URL; ComponentLink1URL: http://www.linear.com/; ComponentLink2Description: Datasheet; ComponentLink2URL: http://cds.linear.com/docs/en/datasheet/18189fb.pdf; ComponentLink3Description: Package Specification; ComponentLink3URL: http://cds.linear.com/docs/en/packaging/05081610_G_SO8.pdf
footprint LT-MS8-8_N (SOP, 8-Leads, Body 3x3mm, Pitch 0.65mm, IPC Medium Density)
footprint LT-MS8-8_L (SOP, 8-Leads, Body 3x3mm, Pitch 0.65mm, IPC High Density)
footprint LT-MS8-8_M (SOP, 8-Leads, Body 3x3mm, Pitch 0.65mm, IPC Low Density)
pins on every part: 4 V- (power), 8 V+ (power)
part A pins: 1 OUT A (out), 2 -IN A (in), 3 +IN A (in)
part B pins: 5 +IN B (in), 6 -IN B (in), 7 OUT B (out)

## LT1819IMS8#TR
designator U?
Dual Channel, 9 mA High Slew Rate Voltage Feedback Operational Amplifier, 400 MHz Typical GBW, 2500 V/us Typical SR, 3.5 to 12.6 V, 8-Pin SOP (MS8-8), Industrial, Reel; Linear Technology Part Number: LT1819; Manufacturer: Linear Technology; PartNumber: LT1819IMS8#TR; Channels (#): 2; GBW (MHz) Typical: 400; Is (mA) Typical: 9; SR (V/us) Typical: 2500; Vos (mV) Guaranteed: 1.5; Vos (mV) Typical: 0.2; Vs Max (V): 12.6; Vs Min (V): 3.5; DatasheetVersion: Rev. B; PackageVersion: Rev G; PackageReference: LT-MS8-8; PackageDescription: 8-Lead Plastic Small Outline, Body 3.9 x 4.9 mm, Pitch 1.27 mm; Supplier 1: Digi-Key; Supplier Part Number 1: LT1819IMS8#TR-ND; Packing: Reel; Type: VFB; Mounting Technology: Surface Mount; ComponentLink1Description: Manufacturer URL; ComponentLink1URL: http://www.linear.com/; ComponentLink2Description: Datasheet; ComponentLink2URL: http://cds.linear.com/docs/en/datasheet/18189fb.pdf; ComponentLink3Description: Package Specification; ComponentLink3URL: http://cds.linear.com/docs/en/packaging/05081610_G_SO8.pdf
footprint LT-MS8-8_N (SOP, 8-Leads, Body 3x3mm, Pitch 0.65mm, IPC Medium Density)
footprint LT-MS8-8_L (SOP, 8-Leads, Body 3x3mm, Pitch 0.65mm, IPC High Density)
footprint LT-MS8-8_M (SOP, 8-Leads, Body 3x3mm, Pitch 0.65mm, IPC Low Density)
pins on every part: 4 V- (power), 8 V+ (power)
part A pins: 1 OUT A (out), 2 -IN A (in), 3 +IN A (in)
part B pins: 5 +IN B (in), 6 -IN B (in), 7 OUT B (out)

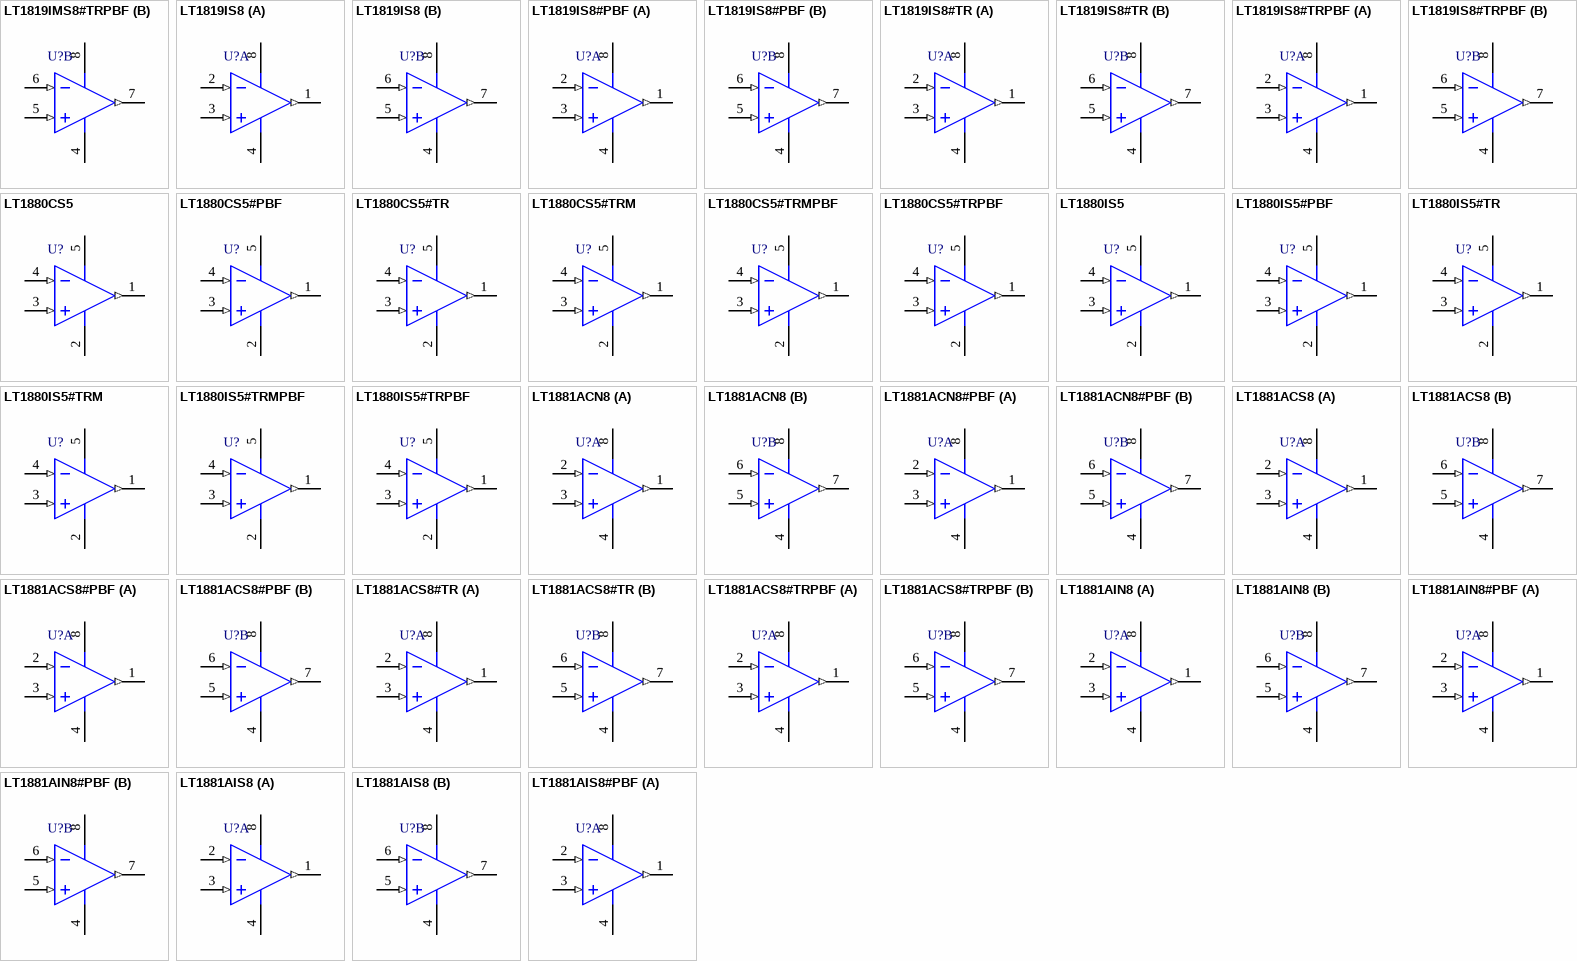
[diagram p91: symbols LT1819IMS8#TRPBF to LT1881AIS8#PBF]

## LT1819IMS8#TRPBF
designator U?
Dual Channel, 9 mA High Slew Rate Voltage Feedback Operational Amplifier, 400 MHz Typical GBW, 2500 V/us Typical SR, 3.5 to 12.6 V, 8-Pin SOP (MS8-8), Industrial, Pb-Free, Reel; Linear Technology Part Number: LT1819; Manufacturer: Linear Technology; PartNumber: LT1819IMS8#TRPBF; Channels (#): 2; GBW (MHz) Typical: 400; Is (mA) Typical: 9; SR (V/us) Typical: 2500; Vos (mV) Guaranteed: 1.5; Vos (mV) Typical: 0.2; Vs Max (V): 12.6; Vs Min (V): 3.5; DatasheetVersion: Rev. B; PackageVersion: Rev G; PackageReference: LT-MS8-8; PackageDescription: 8-Lead Plastic Small Outline, Body 3.9 x 4.9 mm, Pitch 1.27 mm; Supplier 1: Digi-Key; Supplier Part Number 1: LT1819IMS8#TRPBF-ND; Packing: Reel; RoHS: Pb-Free; Type: VFB; Mounting Technology: Surface Mount; ComponentLink1Description: Manufacturer URL; ComponentLink1URL: http://www.linear.com/; ComponentLink2Description: Datasheet; ComponentLink2URL: http://cds.linear.com/docs/en/datasheet/18189fb.pdf; ComponentLink3Description: Package Specification; ComponentLink3URL: http://cds.linear.com/docs/en/packaging/05081610_G_SO8.pdf
footprint LT-MS8-8_N (SOP, 8-Leads, Body 3x3mm, Pitch 0.65mm, IPC Medium Density)
footprint LT-MS8-8_L (SOP, 8-Leads, Body 3x3mm, Pitch 0.65mm, IPC High Density)
footprint LT-MS8-8_M (SOP, 8-Leads, Body 3x3mm, Pitch 0.65mm, IPC Low Density)
pins on every part: 4 V- (power), 8 V+ (power)
part A pins: 1 OUT A (out), 2 -IN A (in), 3 +IN A (in)
part B pins: 5 +IN B (in), 6 -IN B (in), 7 OUT B (out)

## LT1819IS8
designator U?
Dual Channel, 9 mA High Slew Rate Voltage Feedback Operational Amplifier, 400 MHz Typical GBW, 2500 V/us Typical SR, 3.5 to 12.6 V, 8-Pin SOIC (S8-8), Industrial; Linear Technology Part Number: LT1819; Manufacturer: Linear Technology; PartNumber: LT1819IS8; Channels (#): 2; GBW (MHz) Typical: 400; Is (mA) Typical: 9; SR (V/us) Typical: 2500; Vos (mV) Guaranteed: 1.5; Vos (mV) Typical: 0.2; Vs Max (V): 12.6; Vs Min (V): 3.5; DatasheetVersion: Rev. B; PackageVersion: Rev G; PackageReference: LT-S8-8; PackageDescription: 8-Pin Plastic Small Outline, Body 4.9 x 3.9 mm, Pitch 1.27 mm; Supplier 1: Digi-Key; Supplier Part Number 1: LT1819IS8-ND; Type: VFB; Mounting Technology: Surface Mount; ComponentLink1Description: Manufacturer URL; ComponentLink1URL: http://www.linear.com/; ComponentLink2Description: Datasheet; ComponentLink2URL: http://cds.linear.com/docs/en/datasheet/18189fb.pdf; ComponentLink3Description: Package Specification; ComponentLink3URL: http://cds.linear.com/docs/en/packaging/05081610_G_SO8.pdf
footprint LT-S8-8_N (SOIC, 8-Leads, Body 4.9x3.9mm, Pitch 1.27mm, IPC Medium Density)
footprint LT-S8-8_L (SOIC, 8-Leads, Body 4.9x3.9mm, Pitch 1.27mm, IPC High Density)
footprint LT-S8-8_M (SOIC, 8-Leads, Body 4.9x3.9mm, Pitch 1.27mm, IPC Low Density)
pins on every part: 4 V- (power), 8 V+ (power)
part A pins: 1 OUT A (out), 2 -IN A (in), 3 +IN A (in)
part B pins: 5 +IN B (in), 6 -IN B (in), 7 OUT B (out)

## LT1819IS8#PBF
designator U?
Dual Channel, 9 mA High Slew Rate Voltage Feedback Operational Amplifier, 400 MHz Typical GBW, 2500 V/us Typical SR, 3.5 to 12.6 V, 8-Pin SOIC (S8-8), Industrial, Pb-Free; Linear Technology Part Number: LT1819; Manufacturer: Linear Technology; PartNumber: LT1819IS8#PBF; Channels (#): 2; GBW (MHz) Typical: 400; Is (mA) Typical: 9; SR (V/us) Typical: 2500; Vos (mV) Guaranteed: 1.5; Vos (mV) Typical: 0.2; Vs Max (V): 12.6; Vs Min (V): 3.5; DatasheetVersion: Rev. B; PackageVersion: Rev G; PackageReference: LT-S8-8; PackageDescription: 8-Pin Plastic Small Outline, Body 4.9 x 3.9 mm, Pitch 1.27 mm; Supplier 1: Digi-Key; Supplier Part Number 1: LT1819IS8#PBF-ND; Supplier 2: Farnell; Supplier Part Number 2: 1663516; Supplier 3: Newark; Supplier Part Number 3: 57M7055; RoHS: Pb-Free; Type: VFB; Mounting Technology: Surface Mount; ComponentLink1Description: Manufacturer URL; ComponentLink1URL: http://www.linear.com/; ComponentLink2Description: Datasheet; ComponentLink2URL: http://cds.linear.com/docs/en/datasheet/18189fb.pdf; ComponentLink3Description: Package Specification; ComponentLink3URL: http://cds.linear.com/docs/en/packaging/05081610_G_SO8.pdf
footprint LT-S8-8_N (SOIC, 8-Leads, Body 4.9x3.9mm, Pitch 1.27mm, IPC Medium Density)
footprint LT-S8-8_L (SOIC, 8-Leads, Body 4.9x3.9mm, Pitch 1.27mm, IPC High Density)
footprint LT-S8-8_M (SOIC, 8-Leads, Body 4.9x3.9mm, Pitch 1.27mm, IPC Low Density)
pins on every part: 4 V- (power), 8 V+ (power)
part A pins: 1 OUT A (out), 2 -IN A (in), 3 +IN A (in)
part B pins: 5 +IN B (in), 6 -IN B (in), 7 OUT B (out)

## LT1819IS8#TR
designator U?
Dual Channel, 9 mA High Slew Rate Voltage Feedback Operational Amplifier, 400 MHz Typical GBW, 2500 V/us Typical SR, 3.5 to 12.6 V, 8-Pin SOIC (S8-8), Industrial, Reel; Linear Technology Part Number: LT1819; Manufacturer: Linear Technology; PartNumber: LT1819IS8#TR; Channels (#): 2; GBW (MHz) Typical: 400; Is (mA) Typical: 9; SR (V/us) Typical: 2500; Vos (mV) Guaranteed: 1.5; Vos (mV) Typical: 0.2; Vs Max (V): 12.6; Vs Min (V): 3.5; DatasheetVersion: Rev. B; PackageVersion: Rev G; PackageReference: LT-S8-8; PackageDescription: 8-Pin Plastic Small Outline, Body 4.9 x 3.9 mm, Pitch 1.27 mm; Supplier 1: Digi-Key; Supplier Part Number 1: LT1819IS8#TR-ND; Packing: Reel; Type: VFB; Mounting Technology: Surface Mount; ComponentLink1Description: Manufacturer URL; ComponentLink1URL: http://www.linear.com/; ComponentLink2Description: Datasheet; ComponentLink2URL: http://cds.linear.com/docs/en/datasheet/18189fb.pdf; ComponentLink3Description: Package Specification; ComponentLink3URL: http://cds.linear.com/docs/en/packaging/05081610_G_SO8.pdf
footprint LT-S8-8_N (SOIC, 8-Leads, Body 4.9x3.9mm, Pitch 1.27mm, IPC Medium Density)
footprint LT-S8-8_L (SOIC, 8-Leads, Body 4.9x3.9mm, Pitch 1.27mm, IPC High Density)
footprint LT-S8-8_M (SOIC, 8-Leads, Body 4.9x3.9mm, Pitch 1.27mm, IPC Low Density)
pins on every part: 4 V- (power), 8 V+ (power)
part A pins: 1 OUT A (out), 2 -IN A (in), 3 +IN A (in)
part B pins: 5 +IN B (in), 6 -IN B (in), 7 OUT B (out)

## LT1819IS8#TRPBF
designator U?
Dual Channel, 9 mA High Slew Rate Voltage Feedback Operational Amplifier, 400 MHz Typical GBW, 2500 V/us Typical SR, 3.5 to 12.6 V, 8-Pin SOIC (S8-8), Industrial, Pb-Free, Reel; Linear Technology Part Number: LT1819; Manufacturer: Linear Technology; PartNumber: LT1819IS8#TRPBF; Channels (#): 2; GBW (MHz) Typical: 400; Is (mA) Typical: 9; SR (V/us) Typical: 2500; Vos (mV) Guaranteed: 1.5; Vos (mV) Typical: 0.2; Vs Max (V): 12.6; Vs Min (V): 3.5; DatasheetVersion: Rev. B; PackageVersion: Rev G; PackageReference: LT-S8-8; PackageDescription: 8-Pin Plastic Small Outline, Body 4.9 x 3.9 mm, Pitch 1.27 mm; Supplier 1: Digi-Key; Supplier Part Number 1: LT1819IS8#TRPBF-ND; Supplier 2: Newark; Supplier Part Number 2: 57M7057; Packing: Reel; RoHS: Pb-Free; Type: VFB; Mounting Technology: Surface Mount; ComponentLink1Description: Manufacturer URL; ComponentLink1URL: http://www.linear.com/; ComponentLink2Description: Datasheet; ComponentLink2URL: http://cds.linear.com/docs/en/datasheet/18189fb.pdf; ComponentLink3Description: Package Specification; ComponentLink3URL: http://cds.linear.com/docs/en/packaging/05081610_G_SO8.pdf
footprint LT-S8-8_N (SOIC, 8-Leads, Body 4.9x3.9mm, Pitch 1.27mm, IPC Medium Density)
footprint LT-S8-8_L (SOIC, 8-Leads, Body 4.9x3.9mm, Pitch 1.27mm, IPC High Density)
footprint LT-S8-8_M (SOIC, 8-Leads, Body 4.9x3.9mm, Pitch 1.27mm, IPC Low Density)
pins on every part: 4 V- (power), 8 V+ (power)
part A pins: 1 OUT A (out), 2 -IN A (in), 3 +IN A (in)
part B pins: 5 +IN B (in), 6 -IN B (in), 7 OUT B (out)

## LT1880CS5
designator U?
Single Channel, Picoamp Input Current, Precision Operational Amplifier, RRO, 1.1 MHz Typical GBW, 0.55 V/us Typical SR, 2.4 to 40 V, 5-Pin SOT23 (S5-5), Commercial; Linear Technology Part Number: LT1880; Manufacturer: Linear Technology; PartNumber: LT1880CS5; Channels (#): 1; GBW (MHz) Typical: 1.1; Is (mA) Typical: 1.2; SR (V/us) Typical: 0.55; Vos (mV) Guaranteed: 0.15; Vos (mV) Typical: 0.04; Vs Max (V): 40; Vs Min (V): 2.4; DatasheetVersion: Rev. A; PackageReference: LT-S5-5-TSOT-23; PackageDescription: 5-Lead Plastic TSOT-23, Body 1.63 x 2.90 mm, Pitch 0.95 mm; Type: VFB; Mounting Technology: Surface Mount; Code_JEDEC: MO-193; ComponentLink1Description: Manufacturer URL; ComponentLink1URL: http://www.linear.com/; ComponentLink2Description: Datasheet; ComponentLink2URL: http://cds.linear.com/docs/en/datasheet/1880fa.pdf; ComponentLink3Description: Package Specification; ComponentLink3URL: http://cds.linear.com/docs/en/packaging/SOT_5_05-08-1635.pdf
footprint LT-S5-5-TSOT-23_N (SOT23, 5-Leads, Body 2.90x1.63mm, Pitch 0.95mm, IPC Medium Density)
footprint LT-S5-5-TSOT-23_L (SOT23, 5-Leads, Body 2.90x1.63mm, Pitch 0.95mm, IPC High Density)
footprint LT-S5-5-TSOT-23_M (SOT23, 5-Leads, Body 2.90x1.63mm, Pitch 0.95mm, IPC Low Density)
pins: 1 OUT (out) "Output.", 2 V- (power) "Negative Supply Voltage, Usually -5V.", 3 +IN (in) "Noninverting Input.", 4 -IN (in) "Inverting Input.", 5 V+ (power) "Positive Supply Voltage, Usually 5V."

## LT1880CS5#PBF
designator U?
Single Channel, Picoamp Input Current, Precision Operational Amplifier, RRO, 1.1 MHz Typical GBW, 0.55 V/us Typical SR, 2.4 to 40 V, 5-Pin SOT23 (S5-5), Commercial, Pb-Free; Linear Technology Part Number: LT1880; Manufacturer: Linear Technology; PartNumber: LT1880CS5#PBF; Channels (#): 1; GBW (MHz) Typical: 1.1; Is (mA) Typical: 1.2; SR (V/us) Typical: 0.55; Vos (mV) Guaranteed: 0.15; Vos (mV) Typical: 0.04; Vs Max (V): 40; Vs Min (V): 2.4; DatasheetVersion: Rev. A; PackageReference: LT-S5-5-TSOT-23; PackageDescription: 5-Lead Plastic TSOT-23, Body 1.63 x 2.90 mm, Pitch 0.95 mm; Supplier 1: Newark; Supplier Part Number 1: 61R9526; RoHS: Pb-Free; Type: VFB; Mounting Technology: Surface Mount; Code_JEDEC: MO-193; ComponentLink1Description: Manufacturer URL; ComponentLink1URL: http://www.linear.com/; ComponentLink2Description: Datasheet; ComponentLink2URL: http://cds.linear.com/docs/en/datasheet/1880fa.pdf; ComponentLink3Description: Package Specification; ComponentLink3URL: http://cds.linear.com/docs/en/packaging/SOT_5_05-08-1635.pdf
footprint LT-S5-5-TSOT-23_N (SOT23, 5-Leads, Body 2.90x1.63mm, Pitch 0.95mm, IPC Medium Density)
footprint LT-S5-5-TSOT-23_L (SOT23, 5-Leads, Body 2.90x1.63mm, Pitch 0.95mm, IPC High Density)
footprint LT-S5-5-TSOT-23_M (SOT23, 5-Leads, Body 2.90x1.63mm, Pitch 0.95mm, IPC Low Density)
pins: 1 OUT (out) "Output.", 2 V- (power) "Negative Supply Voltage, Usually -5V.", 3 +IN (in) "Noninverting Input.", 4 -IN (in) "Inverting Input.", 5 V+ (power) "Positive Supply Voltage, Usually 5V."

## LT1880CS5#TR
designator U?
Single Channel, Picoamp Input Current, Precision Operational Amplifier, RRO, 1.1 MHz Typical GBW, 0.55 V/us Typical SR, 2.4 to 40 V, 5-Pin SOT23 (S5-5), Commercial, Reel; Linear Technology Part Number: LT1880; Manufacturer: Linear Technology; PartNumber: LT1880CS5#TR; Channels (#): 1; GBW (MHz) Typical: 1.1; Is (mA) Typical: 1.2; SR (V/us) Typical: 0.55; Vos (mV) Guaranteed: 0.15; Vos (mV) Typical: 0.04; Vs Max (V): 40; Vs Min (V): 2.4; DatasheetVersion: Rev. A; PackageReference: LT-S5-5-TSOT-23; PackageDescription: 5-Lead Plastic TSOT-23, Body 1.63 x 2.90 mm, Pitch 0.95 mm; Supplier 1: Digi-Key; Supplier Part Number 1: LT1880CS5TR-ND; Packing: Reel; Type: VFB; Mounting Technology: Surface Mount; Code_JEDEC: MO-193; ComponentLink1Description: Manufacturer URL; ComponentLink1URL: http://www.linear.com/; ComponentLink2Description: Datasheet; ComponentLink2URL: http://cds.linear.com/docs/en/datasheet/1880fa.pdf; ComponentLink3Description: Package Specification; ComponentLink3URL: http://cds.linear.com/docs/en/packaging/SOT_5_05-08-1635.pdf
footprint LT-S5-5-TSOT-23_N (SOT23, 5-Leads, Body 2.90x1.63mm, Pitch 0.95mm, IPC Medium Density)
footprint LT-S5-5-TSOT-23_L (SOT23, 5-Leads, Body 2.90x1.63mm, Pitch 0.95mm, IPC High Density)
footprint LT-S5-5-TSOT-23_M (SOT23, 5-Leads, Body 2.90x1.63mm, Pitch 0.95mm, IPC Low Density)
pins: 1 OUT (out) "Output.", 2 V- (power) "Negative Supply Voltage, Usually -5V.", 3 +IN (in) "Noninverting Input.", 4 -IN (in) "Inverting Input.", 5 V+ (power) "Positive Supply Voltage, Usually 5V."

## LT1880CS5#TRM
designator U?
Single Channel, Picoamp Input Current, Precision Operational Amplifier, RRO, 1.1 MHz Typical GBW, 0.55 V/us Typical SR, 2.4 to 40 V, 5-Pin SOT23 (S5-5), Commercial, Mini Reel; Linear Technology Part Number: LT1880; Manufacturer: Linear Technology; PartNumber: LT1880CS5#TRM; Channels (#): 1; GBW (MHz) Typical: 1.1; Is (mA) Typical: 1.2; SR (V/us) Typical: 0.55; Vos (mV) Guaranteed: 0.15; Vos (mV) Typical: 0.04; Vs Max (V): 40; Vs Min (V): 2.4; DatasheetVersion: Rev. A; PackageReference: LT-S5-5-TSOT-23; PackageDescription: 5-Lead Plastic TSOT-23, Body 1.63 x 2.90 mm, Pitch 0.95 mm; Supplier 1: Digi-Key; Supplier Part Number 1: LT1880CS5#TRMTR-ND; Supplier 2: Digi-Key; Supplier Part Number 2: LT1880CS5#TRMCT-ND; Packing: Mini Reel; Type: VFB; Mounting Technology: Surface Mount; Code_JEDEC: MO-193; ComponentLink1Description: Manufacturer URL; ComponentLink1URL: http://www.linear.com/; ComponentLink2Description: Datasheet; ComponentLink2URL: http://cds.linear.com/docs/en/datasheet/1880fa.pdf; ComponentLink3Description: Package Specification; ComponentLink3URL: http://cds.linear.com/docs/en/packaging/SOT_5_05-08-1635.pdf
footprint LT-S5-5-TSOT-23_N (SOT23, 5-Leads, Body 2.90x1.63mm, Pitch 0.95mm, IPC Medium Density)
footprint LT-S5-5-TSOT-23_L (SOT23, 5-Leads, Body 2.90x1.63mm, Pitch 0.95mm, IPC High Density)
footprint LT-S5-5-TSOT-23_M (SOT23, 5-Leads, Body 2.90x1.63mm, Pitch 0.95mm, IPC Low Density)
pins: 1 OUT (out) "Output.", 2 V- (power) "Negative Supply Voltage, Usually -5V.", 3 +IN (in) "Noninverting Input.", 4 -IN (in) "Inverting Input.", 5 V+ (power) "Positive Supply Voltage, Usually 5V."